# EAGLE library part RR4-433,92 (library #PaJa_31)
Modul prijimace RR4 - 433,92MHz
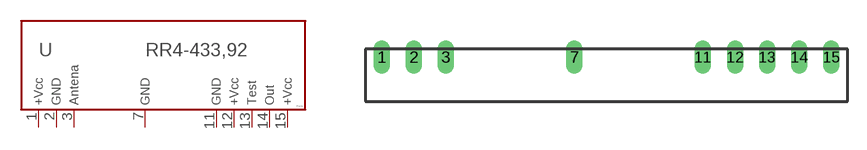
[diagram p58: symbol with the pads of RR4-433,92; footprint RR4-433,92]

Designator prefix -

## RR4-433,92  [RR4-433,92]
1  VCC  pwr
2  GND  pwr
3  ANTENA  pas
7  GND  pwr
11  GND  pwr
12  VCC  pwr
13  MER_BOD  pas
14  OUT  out
15  VCC  pwr

## Footprint RR4-433,92 (pad centres in mm)
drill 0.813 pad 1.27 long: 1 -17.78,0; 2 -15.24,0; 3 -12.7,0; 7 -2.54,0; 11 7.62,0; 12 10.16,0; 13 12.7,0; 14 15.24,0; 15 17.78,0